# Altium schematic symbol library Модули.SchLib: 26 symbols
Pins are listed as number, name and electrical type; pins without a type are passive.

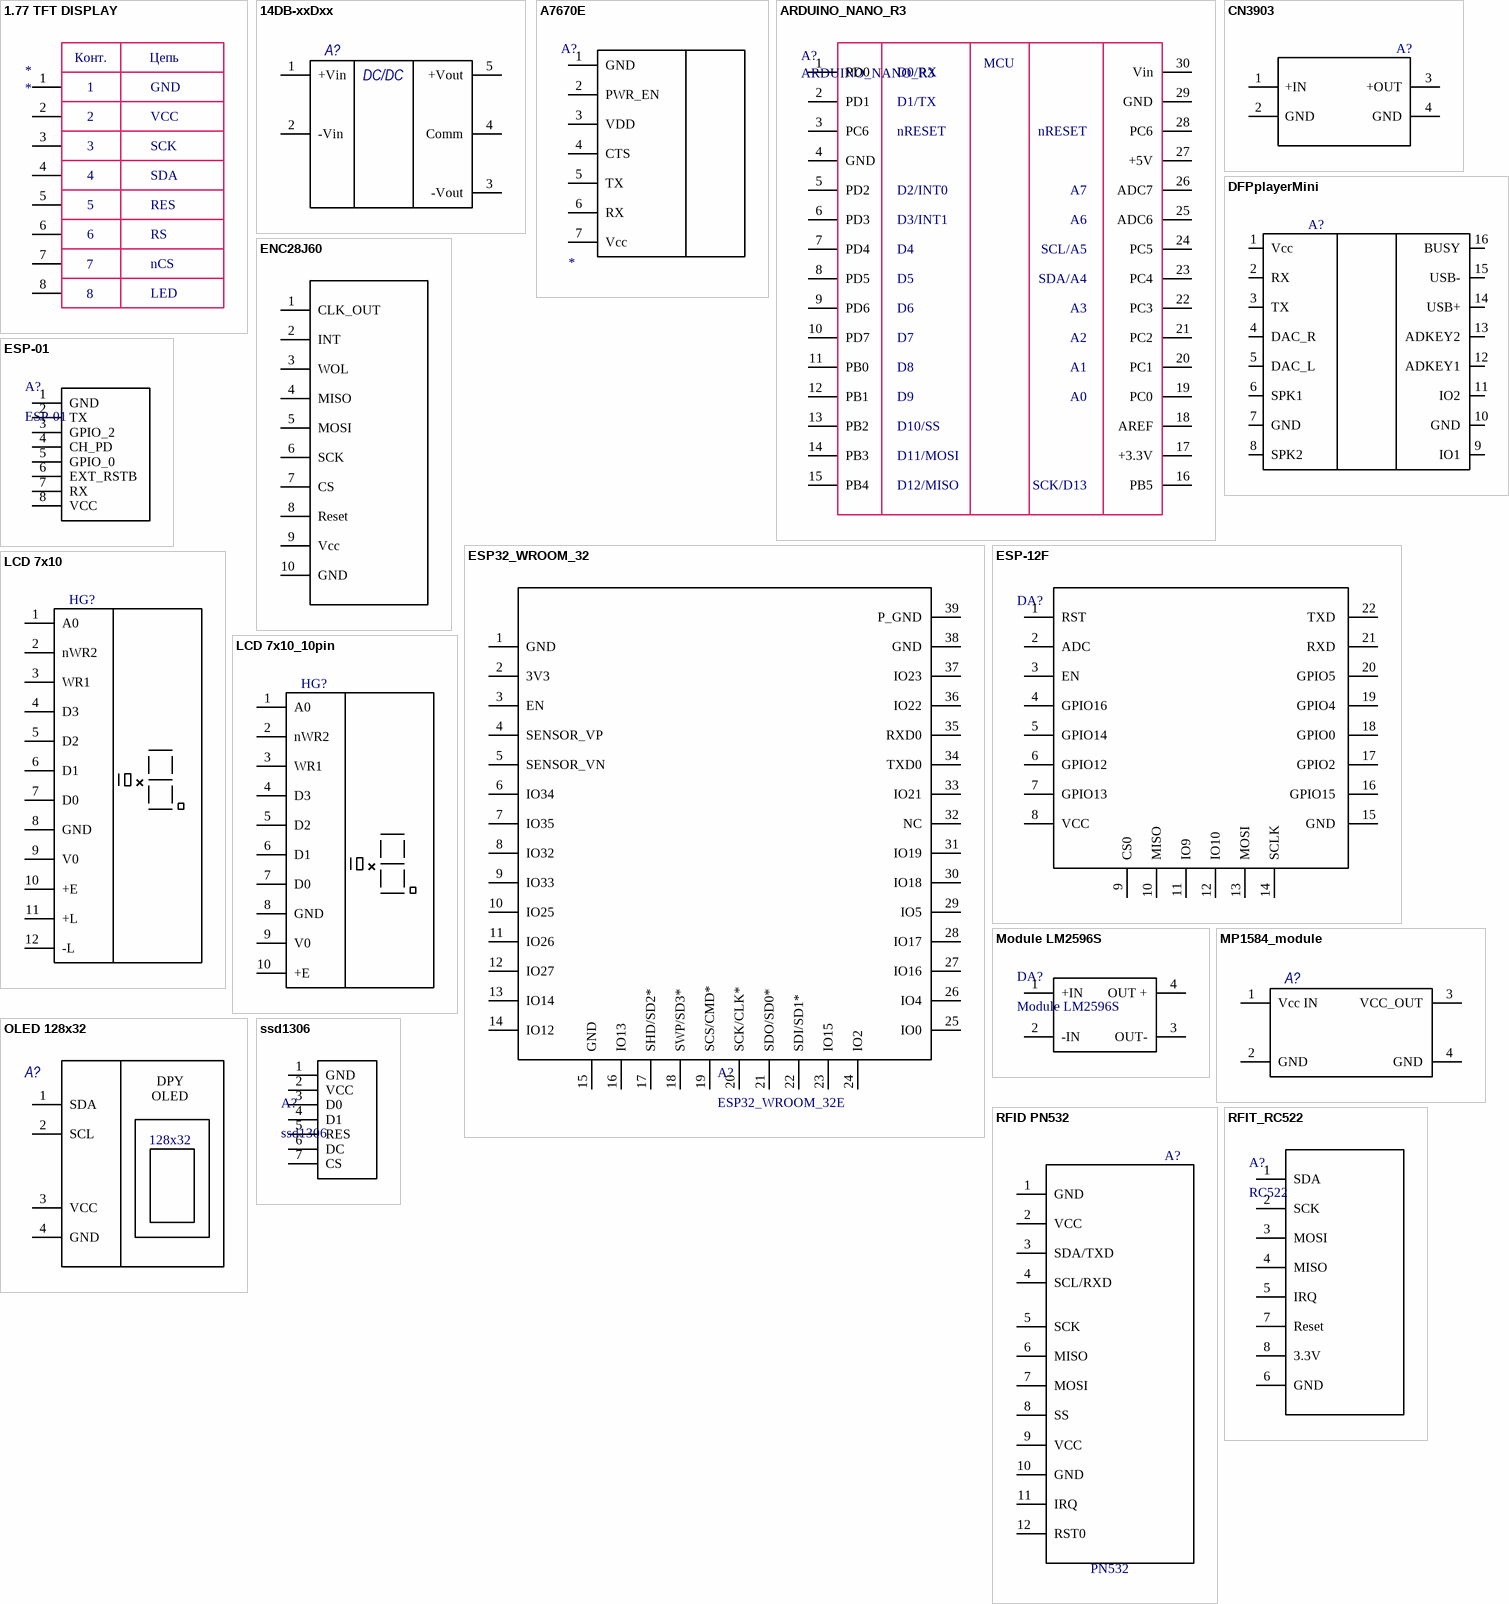
[diagram p0: symbols 1.77 TFT DISPLAY to ssd1306]

## 1.77 TFT DISPLAY
designator *
footprint ST7735S_board
pins: 1, 2, 3, 4, 5, 6, 7, 8
text: Конт.; Цепь; GND; VCC; SCK; SDA; RES; RS; nCS; LED

## 14DB-xxDxx
designator A?  (value not drawn)
pins: 1 +Vin, 2 -Vin, 3 -Vout, 4 Comm, 5 +Vout
text: DC/DC

## A7670E
designator A?
pins: 1 GND, 2 PWR_EN, 3 VDD, 4 CTS, 5 TX, 6 RX, 7 Vcc

## ARDUINO_NANO_R3
designator A?
footprint ARDUINO_NANO_R3
pins: 1 PD0, 2 PD1, 3 PC6, 4 GND, 5 PD2, 6 PD3, 7 PD4, 8 PD5, 9 PD6, 10 PD7, 11 PB0, 12 PB1, 13 PB2, 14 PB3, 15 PB4, 16 PB5, 17 +3.3V, 18 AREF, 19 PC0, 20 PC1, 21 PC2, 22 PC3, 23 PC4, 24 PC5, 25 ADC6, 26 ADC7, 27 +5V, 28 PC6, 29 GND, 30 Vin
text: D0/RX; MCU; D1/TX; nRESET; D2/INT0; A7; D3/INT1; A6; D4; SCL/A5; D5; SDA/A4; D6; A3; D7; A2; D8; A1; D9; A0; D10/SS; D11/MOSI; D12/MISO; SCK/D13

## CN3903
designator A?  (value not drawn)
pins: 1 +IN, 2 GND, 3 +OUT, 4 GND

## DFPplayerMini
designator A?  (value not drawn)
pins: 1 Vcc, 2 RX, 3 TX, 4 DAC_R, 5 DAC_L, 6 SPK1, 7 GND, 8 SPK2, 9 IO1, 10 GND, 11 IO2, 12 ADKEY1, 13 ADKEY2, 14 USB+, 15 USB-, 16 BUSY

## ENC28J60
designator A?  (value not drawn)
Rem: *; Package: *; Value: *; Tolerance: *; Power/Voltage: *; TKE: *; ManufacturerPartNumber: *; Manufacturer: *; Quantity: *; Примечание: *
footprint ENC28J60
pins: 1 CLK_OUT, 2 INT, 3 WOL, 4 MISO, 5 MOSI, 6 SCK, 7 CS, 8 Reset, 9 Vcc, 10 GND

## ESP32_WROOM_32
designator A?, comment ESP32_WROOM_32E
footprint ESP32-WROOM­32
footprint ESP32-WROOM­32 ver2
pins: 1 GND, 2 3V3, 3 EN, 4 SENSOR_VP, 5 SENSOR_VN, 6 IO34, 7 IO35, 8 IO32, 9 IO33, 10 IO25, 11 IO26, 12 IO27, 13 IO14, 14 IO12, 15 GND, 16 IO13, 17 SHD/SD2*, 18 SWP/SD3*, 19 SCS/CMD*, 20 SCK/CLK*, 21 SDO/SD0*, 22 SDI/SD1*, 23 IO15, 24 IO2, 25 IO0, 26 IO4, 27 IO16, 28 IO17, 29 IO5, 30 IO18, 31 IO19, 32 NC, 33 IO21, 34 TXD0, 35 RXD0, 36 IO22, 37 IO23, 38 GND, 39 P_GND

## ESP-01
designator A?
footprint ESP-01
pins: 1 GND, 2 TX, 3 GPIO_2, 4 CH_PD, 5 GPIO_0, 6 EXT_RSTB, 7 RX, 8 VCC

## ESP-12F
designator DA?  (value not drawn)
Rem: *; Package: *; Value: *; Tolerance: *; Power/Voltage: *; TKE: *; ManufacturerPartNumber: *; Manufacturer: *; Quantity: *; Примечание: *
footprint ESP-12F
pins: 1 RST , 2 ADC , 3 EN , 4 GPIO16 , 5 GPIO14 , 6 GPIO12 , 7 GPIO13 , 8 VCC , 9 CS0 , 10 MISO , 11 IO9 , 12 IO10 , 13 MOSI , 14 SCLK , 15 GND , 16 GPIO15 , 17 GPIO2 , 18 GPIO0 , 19 GPIO4 , 20 GPIO5 , 21 RXD , 22 TXD 

## LCD 7x10
designator HG?, comment JH3280EWH  (value not drawn)
HL; Value: JH3280EWH
pins: 1 A0, 2 nWR2, 3 WR1, 4 D3, 5 D2, 6 D1, 7 D0, 8 GND, 9 V0, 10 +E, 11 +L, 12 -L

## LCD 7x10_10pin
designator HG?, comment JH3280EWH  (value not drawn)
HL; Value: JH3280EWH
pins: 1 A0, 2 nWR2, 3 WR1, 4 D3, 5 D2, 6 D1, 7 D0, 8 GND, 9 V0, 10 +E

## Module LM2596S
designator DA?
footprint Module LM2596S
pins: 1 +IN, 2 -IN, 3 OUT-, 4 OUT +

## MP1584_module
designator A?  (value not drawn)
MP1584_module
pins: 1 Vcc IN, 2 GND, 3 VCC_OUT, 4 GND

## OLED 128x32
designator A?  (value not drawn)
pins: 1 SDA, 2 SCL, 3 VCC, 4 GND
text: DPY / OLED; 128x32

## RFID PN532
designator A?, comment PN532
pins: 1 GND, 2 VCC, 3 SDA/TXD, 4 SCL/RXD, 5 SCK, 6 MISO, 7 MOSI, 8 SS, 9 VCC, 10 GND, 11 IRQ, 12 RST0

## RFIT_RC522
designator A?, comment RC522
Rem: *; Package: *; Value: RC522; Tolerance: *; Power/Voltage: *; TKE: *; ManufacturerPartNumber: *; Manufacturer: *; Quantity: *; Примечание: *
footprint RC522
footprint RC522_TopFaseDown
pins: 1 SDA, 2 SCK, 3 MOSI, 4 MISO, 5 IRQ, 6 GND, 7 Reset, 8 3.3V

## ssd1306
designator A?
footprint ssd1306
pins: 1 GND, 2 VCC, 3 D0, 4 D1, 5 RES, 6 DC, 7 CS

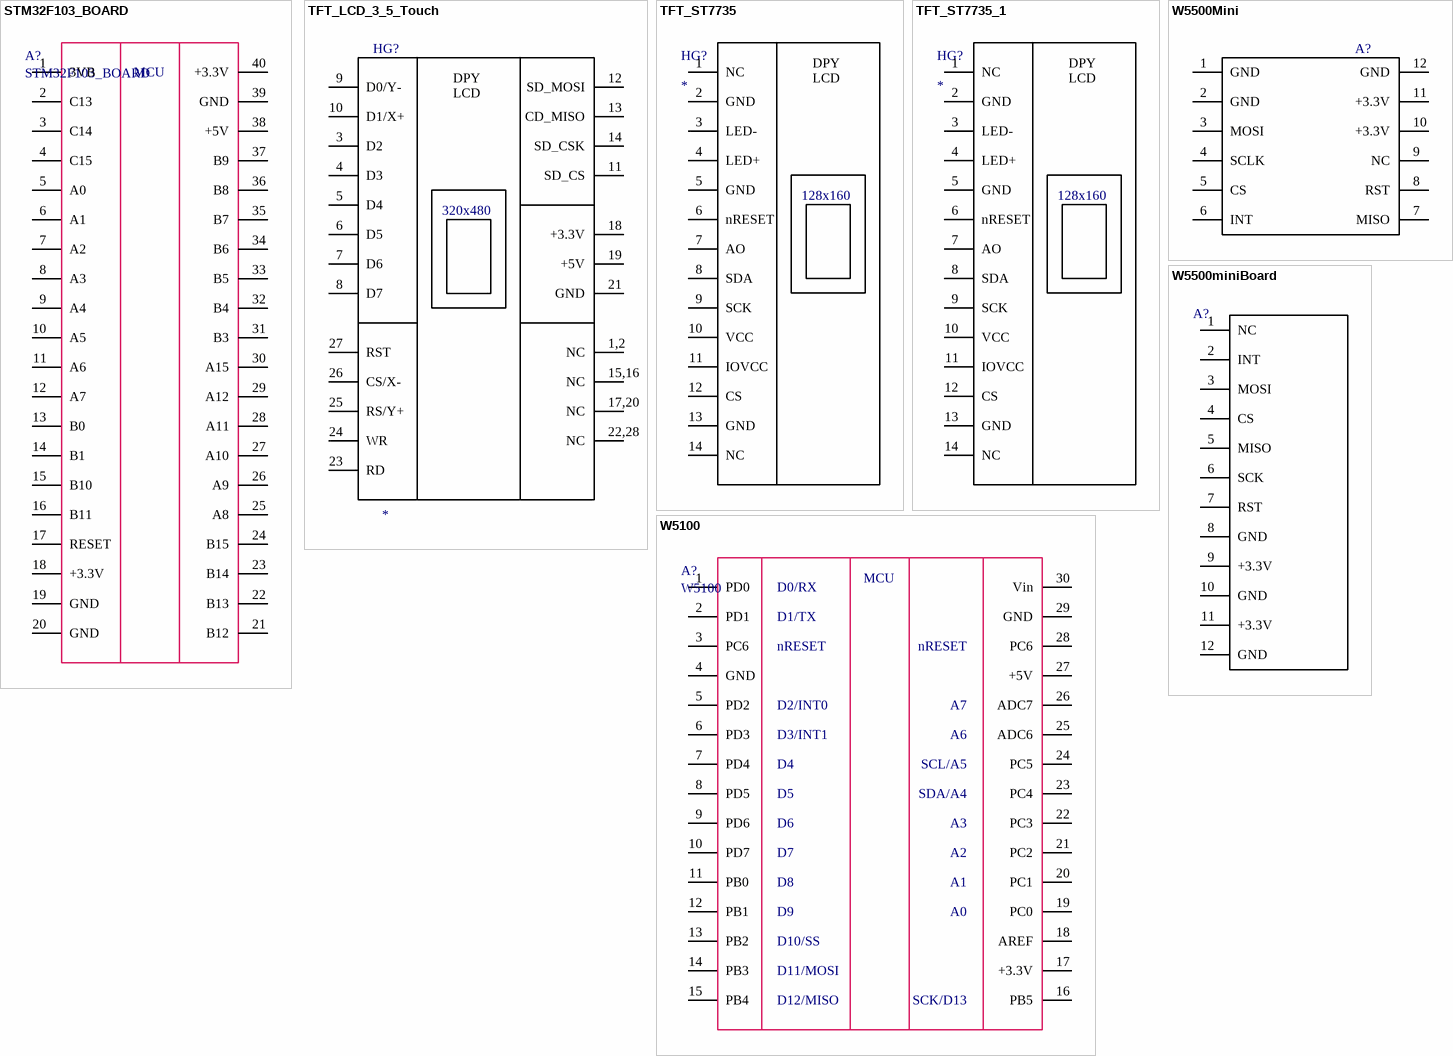
[diagram p1: symbols STM32F103_BOARD to W5500miniBoard]

## STM32F103_BOARD
designator A?
footprint STM32F103_BOARD
pins: 1 3VB, 2 C13, 3 C14, 4 C15, 5 A0, 6 A1, 7 A2, 8 A3, 9 A4, 10 A5, 11 A6, 12 A7, 13 B0, 14 B1, 15 B10, 16 B11, 17 RESET, 18 +3.3V, 19 GND, 20 GND, 21 B12, 22 B13, 23 B14, 24 B15, 25 A8, 26 A9, 27 A10, 28 A11, 29 A12, 30 A15, 31 B3, 32 B4, 33 B5, 34 B6, 35 B7, 36 B8, 37 B9, 38 +5V, 39 GND, 40 +3.3V
text: MCU

## TFT_LCD_3_5_Touch
designator HG?
footprint TFT_LCD
pins: 1,2 NC, 3 D2, 4 D3, 5 D4, 6 D5, 7 D6, 8 D7, 9 D0/Y-, 10 D1/X+, 11 SD_CS, 12 SD_MOSI, 13 CD_MISO, 14 SD_CSK, 15,16 NC, 17,20 NC, 18 +3.3V, 19 +5V, 21 GND, 22,28 NC, 23 RD, 24 WR, 25 RS/Y+, 26 CS/X-, 27 RST
text: DPY / LCD; 320x480

## TFT_ST7735
designator HG?
footprint TFT_128x160
pins: 1 NC, 2 GND, 3 LED-, 4 LED+, 5 GND, 6 nRESET, 7 AO, 8 SDA, 9 SCK, 10 VCC, 11 IOVCC, 12 CS, 13 GND, 14 NC
text: DPY / LCD; 128x160

## TFT_ST7735_1
designator HG?
footprint TFT_128x160
pins: 1 NC, 2 GND, 3 LED-, 4 LED+, 5 GND, 6 nRESET, 7 AO, 8 SDA, 9 SCK, 10 VCC, 11 IOVCC, 12 CS, 13 GND, 14 NC
text: DPY / LCD; 128x160

## W5100
designator A?
footprint W5100_shild
pins: 1 PD0, 2 PD1, 3 PC6, 4 GND, 5 PD2, 6 PD3, 7 PD4, 8 PD5, 9 PD6, 10 PD7, 11 PB0, 12 PB1, 13 PB2, 14 PB3, 15 PB4, 16 PB5, 17 +3.3V, 18 AREF, 19 PC0, 20 PC1, 21 PC2, 22 PC3, 23 PC4, 24 PC5, 25 ADC6, 26 ADC7, 27 +5V, 28 PC6, 29 GND, 30 Vin
text: D0/RX; MCU; D1/TX; nRESET; D2/INT0; A7; D3/INT1; A6; D4; SCL/A5; D5; SDA/A4; D6; A3; D7; A2; D8; A1; D9; A0; D10/SS; D11/MOSI; D12/MISO; SCK/D13

## W5500Mini
designator A?  (value not drawn)
pins: 1 GND, 2 GND, 3 MOSI, 4 SCLK, 5 CS, 6 INT, 7 MISO, 8 RST, 9 NC, 10 +3.3V, 11 +3.3V, 12 GND

## W5500miniBoard
designator A?  (value not drawn)
pins: 1 NC, 2 INT, 3 MOSI, 4 CS, 5 MISO, 6 SCK, 7 RST, 8 GND, 9 +3.3V, 10 GND, 11 +3.3V, 12 GND

## РЫБА
designator C?  (value not drawn)
Rem: *; Package: *; Value: *; Tolerance: *; Power/Voltage: *; TKE: *; ManufacturerPartNumber: *; Manufacturer: *; Quantity: *; Примечание: *